# EAGLE library part STM32G473-128 (library Bits_library_eagle)
STM32G473 LQFP128
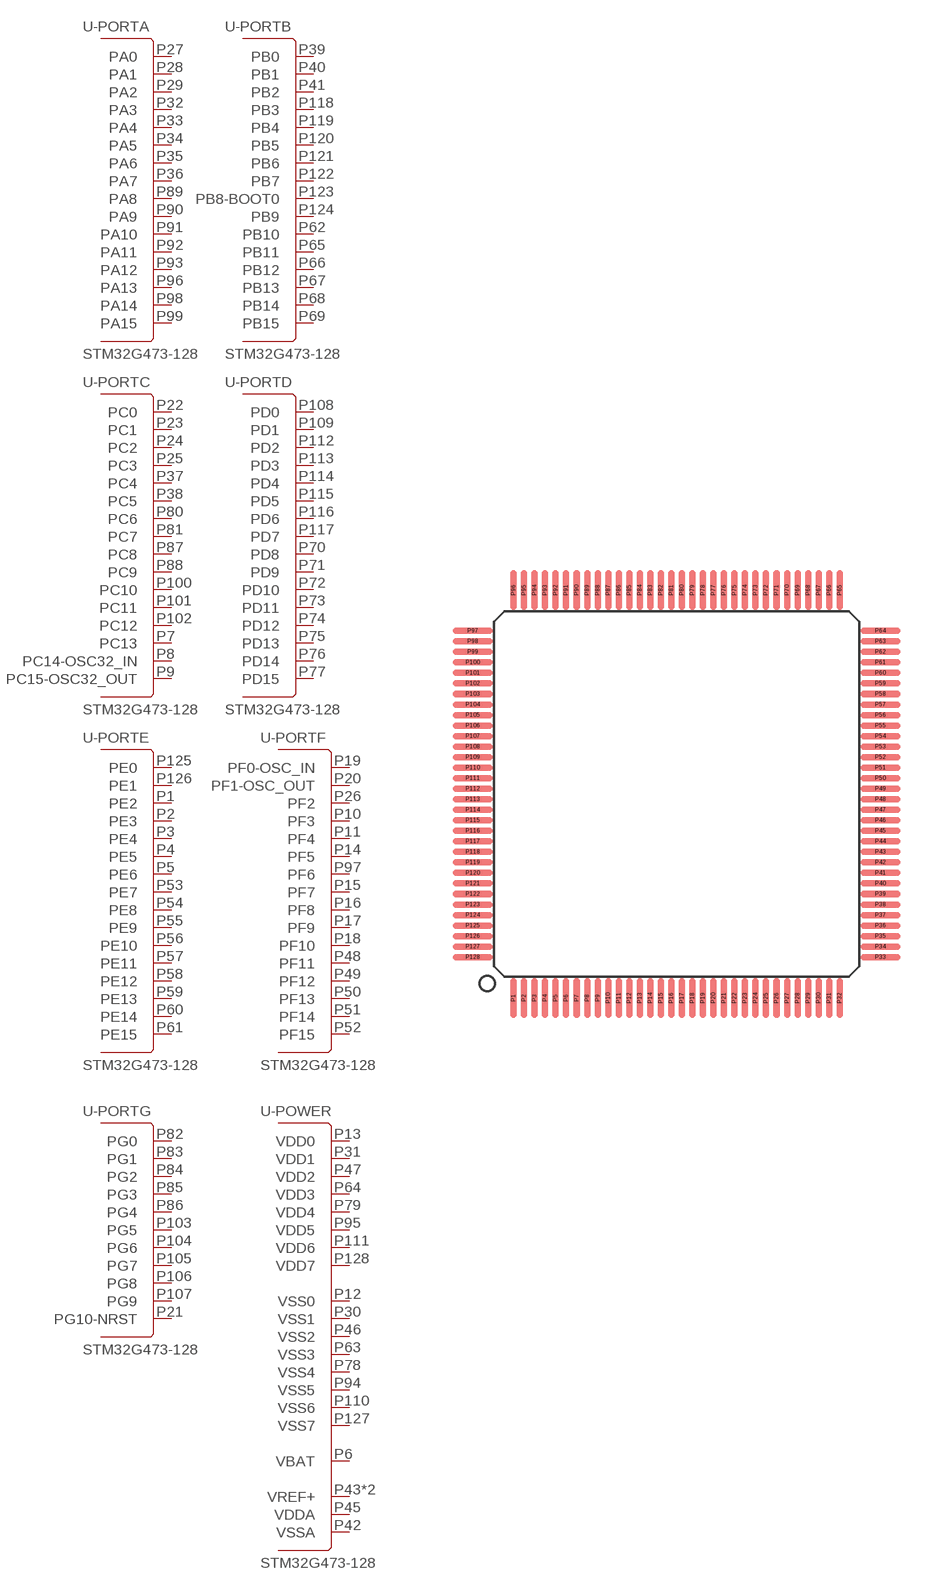
[diagram p16: symbol with the pads of TQFP128; footprint TQFP128]

Designator prefix -; gates -PORTA=STM32-PORTA-128 -PORTB=STM32-PORTB-128 -PORTC=STM32-PORTC-128 -PORTD=STM32-PORTD-128 -PORTE=STM32-PORTE-128 -PORTF=STM32-PORTF-128 -PORTG=STM32-PORTG-128 -POWER=STM32-PWR-128

## STM32G473-128  [TQFP128]
P1  -PORTE:PE2
P2  -PORTE:PE3
P3  -PORTE:PE4
P4  -PORTE:PE5
P5  -PORTE:PE6
P6  -POWER:VBAT  pwr
P7  -PORTC:PC13
P8  -PORTC:PC14-OSC32_IN
P9  -PORTC:PC15-OSC32_OUT
P10  -PORTF:PF3
P11  -PORTF:PF4
P12  -POWER:VSS0  pwr
P13  -POWER:VDD0  pwr
P14  -PORTF:PF5
P15  -PORTF:PF7
P16  -PORTF:PF8
P17  -PORTF:PF9
P18  -PORTF:PF10
P19  -PORTF:PF0-OSC_IN
P20  -PORTF:PF1-OSC_OUT
P21  -PORTG:PG10-NRST
P22  -PORTC:PC0
P23  -PORTC:PC1
P24  -PORTC:PC2
P25  -PORTC:PC3
P26  -PORTF:PF2
P27  -PORTA:PA0
P28  -PORTA:PA1
P29  -PORTA:PA2
P30  -POWER:VSS1  pwr
P31  -POWER:VDD1  pwr
P32  -PORTA:PA3
P33  -PORTA:PA4
P34  -PORTA:PA5
P35  -PORTA:PA6
P36  -PORTA:PA7
P37  -PORTC:PC4
P38  -PORTC:PC5
P39  -PORTB:PB0
P40  -PORTB:PB1
P41  -PORTB:PB2
P42  -POWER:VSSA  pwr
P43  -POWER:VREF+  pwr
P44  -POWER:VREF+  pwr
P45  -POWER:VDDA  pwr
P46  -POWER:VSS2  pwr
P47  -POWER:VDD2  pwr
P48  -PORTF:PF11
P49  -PORTF:PF12
P50  -PORTF:PF13
P51  -PORTF:PF14
P52  -PORTF:PF15
P53  -PORTE:PE7
P54  -PORTE:PE8
P55  -PORTE:PE9
P56  -PORTE:PE10
P57  -PORTE:PE11
P58  -PORTE:PE12
P59  -PORTE:PE13
P60  -PORTE:PE14
P61  -PORTE:PE15
P62  -PORTB:PB10
P63  -POWER:VSS3  pwr
P64  -POWER:VDD3  pwr
P65  -PORTB:PB11
P66  -PORTB:PB12
P67  -PORTB:PB13
P68  -PORTB:PB14
P69  -PORTB:PB15
P70  -PORTD:PD8
P71  -PORTD:PD9
P72  -PORTD:PD10
P73  -PORTD:PD11
P74  -PORTD:PD12
P75  -PORTD:PD13
P76  -PORTD:PD14
P77  -PORTD:PD15
P78  -POWER:VSS4  pwr
P79  -POWER:VDD4  pwr
P80  -PORTC:PC6
P81  -PORTC:PC7
P82  -PORTG:PG0
P83  -PORTG:PG1
P84  -PORTG:PG2
P85  -PORTG:PG3
P86  -PORTG:PG4
P87  -PORTC:PC8
P88  -PORTC:PC9
P89  -PORTA:PA8
P90  -PORTA:PA9
P91  -PORTA:PA10
P92  -PORTA:PA11
P93  -PORTA:PA12
P94  -POWER:VSS5  pwr
P95  -POWER:VDD5  pwr
P96  -PORTA:PA13
P97  -PORTF:PF6
P98  -PORTA:PA14
P99  -PORTA:PA15
P100  -PORTC:PC10
P101  -PORTC:PC11
P102  -PORTC:PC12
P103  -PORTG:PG5
P104  -PORTG:PG6
P105  -PORTG:PG7
P106  -PORTG:PG8
P107  -PORTG:PG9
P108  -PORTD:PD0
P109  -PORTD:PD1
P110  -POWER:VSS6  pwr
P111  -POWER:VDD6  pwr
P112  -PORTD:PD2
P113  -PORTD:PD3
P114  -PORTD:PD4
P115  -PORTD:PD5
P116  -PORTD:PD6
P117  -PORTD:PD7
P118  -PORTB:PB3
P119  -PORTB:PB4
P120  -PORTB:PB5
P121  -PORTB:PB6
P122  -PORTB:PB7
P123  -PORTB:PB8-BOOT0
P124  -PORTB:PB9
P125  -PORTE:PE0
P126  -PORTE:PE1
P127  -POWER:VSS7  pwr
P128  -POWER:VDD7  pwr

## Footprint TQFP128 (pad centres in mm)
Thin Quad Flat Pack
smd 0.24 x 1.5: P1 -6.2,-7.75; P2 -5.8,-7.75; P3 -5.4,-7.75; P4 -5,-7.75; P5 -4.6,-7.75; P6 -4.2,-7.75; P7 -3.8,-7.75; P8 -3.4,-7.75; P9 -3,-7.75; P10 -2.6,-7.75; P11 -2.2,-7.75; P12 -1.8,-7.75; P13 -1.4,-7.75; P14 -1,-7.75; P15 -0.6,-7.75; P16 -0.2,-7.75; P17 0.2,-7.75; P18 0.6,-7.75; P19 1,-7.75; P20 1.4,-7.75; P21 1.8,-7.75; P22 2.2,-7.75; P23 2.6,-7.75; P24 3,-7.75; P25 3.4,-7.75; P26 3.8,-7.75; P27 4.2,-7.75; P28 4.6,-7.75; P29 5,-7.75; P30 5.4,-7.75; P31 5.8,-7.75; P32 6.2,-7.75; P65 6.2,7.75; P66 5.8,7.75; P67 5.4,7.75; P68 5,7.75; P69 4.6,7.75; P70 4.2,7.75; P71 3.8,7.75; P72 3.4,7.75; P73 3,7.75; P74 2.6,7.75; P75 2.2,7.75; P76 1.8,7.75; P77 1.4,7.75; P78 1,7.75; P79 0.6,7.75; P80 0.2,7.75; P81 -0.2,7.75; P82 -0.6,7.75; P83 -1,7.75; P84 -1.4,7.75; P85 -1.8,7.75; P86 -2.2,7.75; P87 -2.6,7.75; P88 -3,7.75; P89 -3.4,7.75; P90 -3.8,7.75; P91 -4.2,7.75; P92 -4.6,7.75; P93 -5,7.75; P94 -5.4,7.75; P95 -5.8,7.75; P96 -6.2,7.75
smd 1.5 x 0.24: P33 7.75,-6.2; P34 7.75,-5.8; P35 7.75,-5.4; P36 7.75,-5; P37 7.75,-4.6; P38 7.75,-4.2; P39 7.75,-3.8; P40 7.75,-3.4; P41 7.75,-3; P42 7.75,-2.6; P43 7.75,-2.2; P44 7.75,-1.8; P45 7.75,-1.4; P46 7.75,-1; P47 7.75,-0.6; P48 7.75,-0.2; P49 7.75,0.2; P50 7.75,0.6; P51 7.75,1; P52 7.75,1.4; P53 7.75,1.8; P54 7.75,2.2; P55 7.75,2.6; P56 7.75,3; P57 7.75,3.4; P58 7.75,3.8; P59 7.75,4.2; P60 7.75,4.6; P61 7.75,5; P62 7.75,5.4; P63 7.75,5.8; P64 7.75,6.2; P97 -7.75,6.2; P98 -7.75,5.8; P99 -7.75,5.4; P100 -7.75,5; P101 -7.75,4.6; P102 -7.75,4.2; P103 -7.75,3.8; P104 -7.75,3.4; P105 -7.75,3; P106 -7.75,2.6; P107 -7.75,2.2; P108 -7.75,1.8; P109 -7.75,1.4; P110 -7.75,1; P111 -7.75,0.6; P112 -7.75,0.2; P113 -7.75,-0.2; P114 -7.75,-0.6; P115 -7.75,-1; P116 -7.75,-1.4; P117 -7.75,-1.8; P118 -7.75,-2.2; P119 -7.75,-2.6; P120 -7.75,-3; P121 -7.75,-3.4; P122 -7.75,-3.8; P123 -7.75,-4.2; P124 -7.75,-4.6; P125 -7.75,-5; P126 -7.75,-5.4; P127 -7.75,-5.8; P128 -7.75,-6.2